# EAGLE library part 614004135023 (library Wurth_Elektronik_Electromechanic_Input-Output_Connectors_rev15c)
WR-COM Vertical USB Type A=>Code : Con_I-O_COM_USB-2.0_A_614004135023 <http://katalog.we-online.de/media/images/eican/Con_I-O_COM_USB-2.0_A_614004135023_pf2.jpg> Details see: http://katalog.we-online.de/en/em/614_004_135_023 Created 2014-07-09, Karrer Zheng 2014 (C) Würth Elektronik
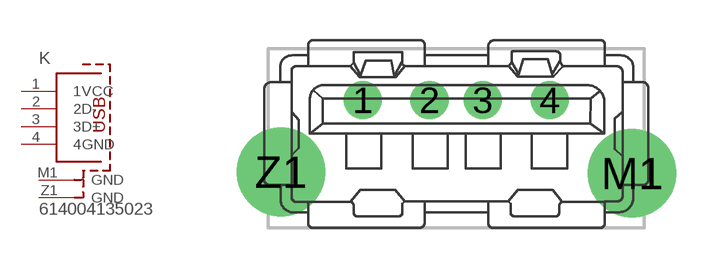
[diagram p161: symbol with the pads of 614004135023; footprint 614004135023]

Designator prefix K

## 614004135023  [614004135023]
1  1VCC  pas
2  2D-  pas
3  3D+  pas
4  4GND  pas
M1  GND
Z1  GND

## Footprint 614004135023 (pad centres in mm)
WR-COM Vertical USB Type A
drill 0.92: 1 -3.5,2.7; 2 -1,2.7; 3 1,2.7; 4 3.5,2.7
drill 2.3 pad 2.8: M1 6.59,-0.05
drill 2.3: Z1 -6.57,0